# EAGLE library part IRFS7530-7PPBF (library MikeDesigns)
MOSFET N CH 60V 240A D2PAK Applications Brushed Motor drive applications BLDC Motor drive applications Battery powered circuits Half-bridge and full-bridge topologies Synchronous rectifier applications Resonant mode power supplies OR-ing and redundant power switches
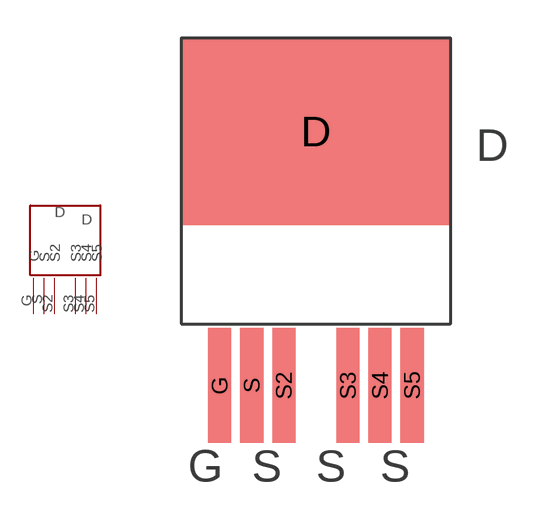
[diagram p0: symbol with the pads of IRFS7530-7PPBF; footprint IRFS7530-7PPBF]

Designator prefix -

## IRFS7530-7PPBF  [IRFS7530-7PPBF]
D  D
G  G
S  S
S2  S2
S3  S3
S4  S4
S5  S5

## Footprint IRFS7530-7PPBF (pad centres in mm)
MOSFET N CH 60V 240A D2PAK Package outlined by max dimensions and Mold Flash included
smd 10.541 x 7.417: D 0,3.708
smd 0.914 x 4.547: G -3.81,-6.35; S -2.54,-6.35; S2 -1.27,-6.35; S3 1.27,-6.35; S4 2.54,-6.35; S5 3.81,-6.35